# Altium schematic symbol library Vishay.SchLib: 1 symbol
Pins are listed as number, name and electrical type; pins without a type are passive.

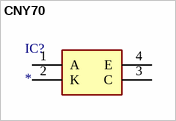
[diagram p0: symbol CNY70]

## CNY70
designator IC?
Integrated Circuit; Manufacturer_Name: Vishay; Manufacturer_Part_Number: CNY70; Datasheet Link: http://www.vishay.com/docs/83751/cny70.pdf; Height: 6mm; Mouser Part Number: 782-CNY70; Mouser Price/Stock: https://www.mouser.co.uk/ProductDetail/Vishay-Semiconductors/CNY70?qs=%2Fjqivxn91cdreAm7vR28%252BA%3D%3D; Arrow Part Number: CNY70; Arrow Price/Stock: https://www.arrow.com/en/products/cny70/vishay?region=nac
pins: 1 A, 2 K, 3 C, 4 E